# EAGLE library part NRF24Z1 (library LM4880)
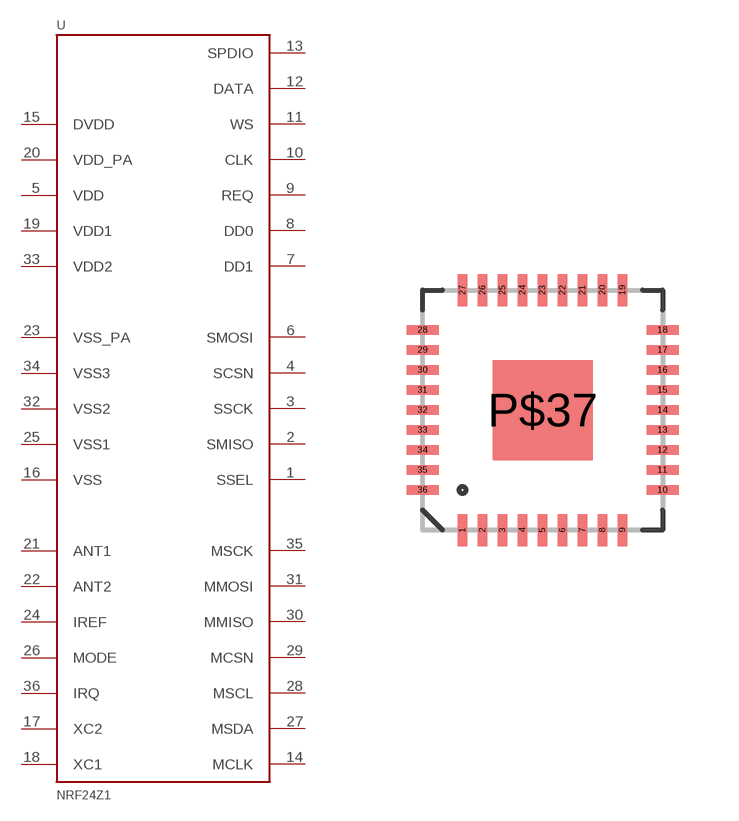
[diagram p141: symbol with the pads of QFN-36; footprint QFN-36]

Designator prefix -

## NRF24Z1  [QFN-36]
1  SSEL
2  SMISO
3  SSCK
4  SCSN
5  VDD
6  SMOSI
7  DD1
8  DD0
9  REQ
10  CLK
11  WS
12  DATA
13  SPDIO
14  MCLK
15  DVDD
16  VSS
17  XC2
18  XC1
19  VDD1
20  VDD_PA
21  ANT1
22  ANT2
23  VSS_PA
24  IREF
25  VSS1
26  MODE
27  MSDA
28  MSCL
29  MCSN
30  MMISO
31  MMOSI
32  VSS2
33  VDD2
34  VSS3
35  MSCK
36  IRQ

## Footprint QFN-36 (pad centres in mm)
smd 0.23 x 0.8: 1 -2,-3; 2 -1.5,-3; 3 -1,-3; 4 -0.5,-3; 5 0,-3; 6 0.5,-3; 7 1,-3; 8 1.5,-3; 9 2,-3; 19 2,3; 20 1.5,3; 21 1,3; 22 0.5,3; 23 0,3; 24 -0.5,3; 25 -1,3; 26 -1.5,3; 27 -2,3
smd 0.8 x 0.23: 10 3,-2; 11 3,-1.5; 12 3,-1; 13 3,-0.5; 14 3,0; 15 3,0.5; 16 3,1; 17 3,1.5; 18 3,2; 28 -3,2; 29 -3,1.5; 30 -3,1; 31 -3,0.5; 32 -3,0; 33 -3,-0.5; 34 -3,-1; 35 -3,-1.5; 36 -3,-2
smd 2.5 x 2.5: P$37 0,0